# EAGLE library part ADG2188 (library 000_ICS)
Analog cross point switch. 8x8 I2C
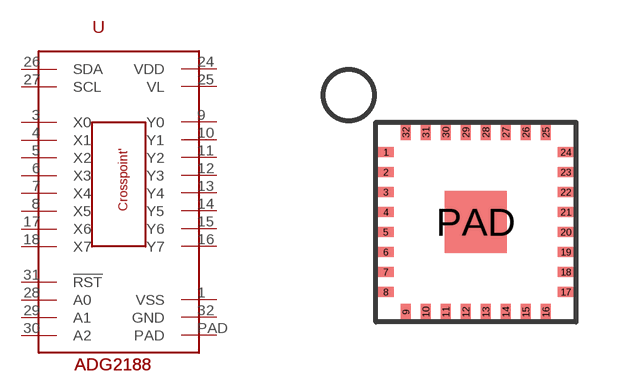
[diagram p12: symbol with the pads of CSP_WQ_32; footprint CSP_WQ_32]

Designator prefix -

## ADG2188 (1PC: 11.42; DIGIKEY: ADG2188YCPZ-REEL7CT-ND; HEIGHT: 2)  [CSP_WQ_32]
1  VSS
3  X0
4  X1
5  X2
6  X3
7  X4
8  X5
9  Y0
10  Y1
11  Y2
12  Y3
13  Y4
14  Y5
15  Y6
16  Y7
17  X6
18  X7
24  VDD
25  VL
26  SDA
27  SCL
28  A0
29  A1
30  A2
31  !RST
32  GND
PAD  PAD

## Footprint CSP_WQ_32 (pad centres in mm)
smd 0.4 x 0.25: 1 -2.25,1.75; 2 -2.25,1.25; 3 -2.25,0.75; 4 -2.25,0.25; 5 -2.25,-0.25; 6 -2.25,-0.75; 7 -2.25,-1.25; 8 -2.25,-1.75; 17 2.25,-1.75; 18 2.25,-1.25; 19 2.25,-0.75; 20 2.25,-0.25; 21 2.25,0.25; 22 2.25,0.75; 23 2.25,1.25; 24 2.25,1.75
smd 0.25 x 0.4: 9 -1.75,-2.25; 10 -1.25,-2.25; 11 -0.75,-2.25; 12 -0.25,-2.25; 13 0.25,-2.25; 14 0.75,-2.25; 15 1.25,-2.25; 16 1.75,-2.25; 25 1.75,2.25; 26 1.25,2.25; 27 0.75,2.25; 28 0.25,2.25; 29 -0.25,2.25; 30 -0.75,2.25; 31 -1.25,2.25; 32 -1.75,2.25
smd 1.55 x 1.55: PAD 0,0